# EAGLE library part TEXAS_INSTRUMENTS-MICROCONTROLLER-TMS320F28030PNT (library Module_ICs)
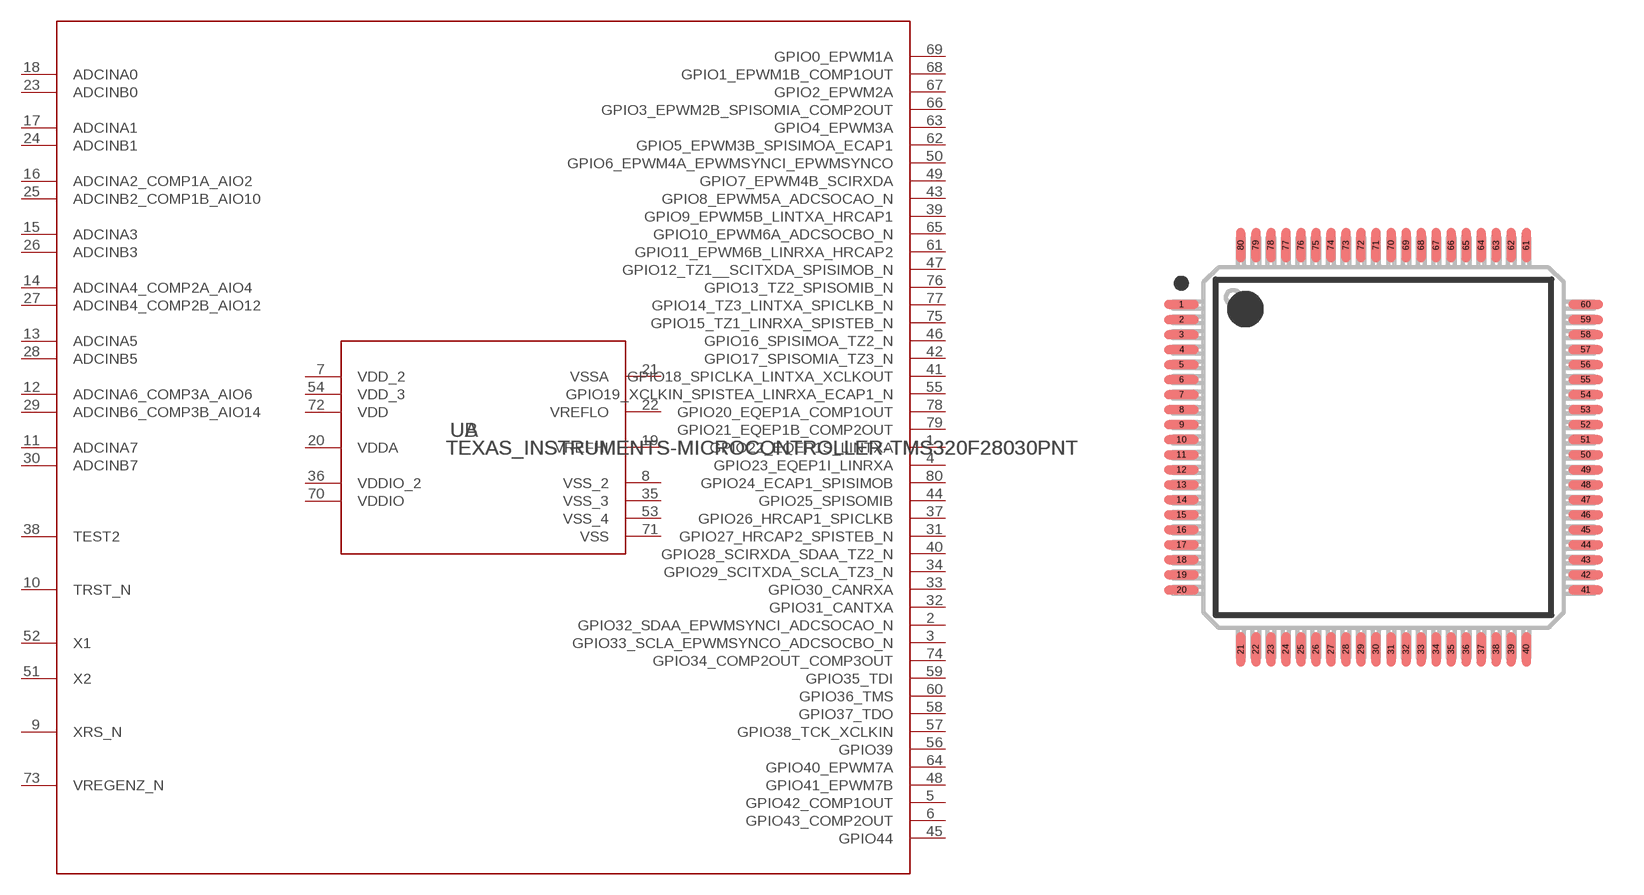
[diagram p22: symbol with the pads of TEXAS_INSTRUMENTS-MICROCONTROLLER-TMS320F28030PNT; footprint TEXAS_INSTRUMENTS-MICROCONTROLLER-TMS320F28030PNT]

Designator prefix U; gates A=TMS320F28030PN_A B=TMS320F28030PN_B

## TEXAS_INSTRUMENTS-MICROCONTROLLER-TMS320F28030PNT (MANUFACTURER: Texas Instruments; PARTNUMBER: TMS320F28030PNT; REFDES: RefDes; TYPE: TYPE; VALUE: Value)  [TEXAS_INSTRUMENTS-MICROCONTROLLER-TMS320F28030PNT]
1  A:GPIO22_EQEP1S_LINTXA
2  A:GPIO32_SDAA_EPWMSYNCI_ADCSOCAO_N
3  A:GPIO33_SCLA_EPWMSYNCO_ADCSOCBO_N
4  A:GPIO23_EQEP1I_LINRXA
5  A:GPIO42_COMP1OUT
6  A:GPIO43_COMP2OUT
7  B:VDD_2  pwr
8  B:VSS_2  pwr
9  A:XRS_N
10  A:TRST_N  pas
11  A:ADCINA7  in
12  A:ADCINA6_COMP3A_AIO6
13  A:ADCINA5  in
14  A:ADCINA4_COMP2A_AIO4
15  A:ADCINA3  in
16  A:ADCINA2_COMP1A_AIO2
17  A:ADCINA1  in
18  A:ADCINA0  in
19  B:VREFHI  pas
20  B:VDDA  pwr
21  B:VSSA  pwr
22  B:VREFLO  pas
23  A:ADCINB0  in
24  A:ADCINB1  in
25  A:ADCINB2_COMP1B_AIO10
26  A:ADCINB3  in
27  A:ADCINB4_COMP2B_AIO12
28  A:ADCINB5  in
29  A:ADCINB6_COMP3B_AIO14
30  A:ADCINB7  in
31  A:GPIO27_HRCAP2_SPISTEB_N
32  A:GPIO31_CANTXA
33  A:GPIO30_CANRXA
34  A:GPIO29_SCITXDA_SCLA_TZ3_N
35  B:VSS_3  pwr
36  B:VDDIO_2  pwr
37  A:GPIO26_HRCAP1_SPICLKB
38  A:TEST2  pas
39  A:GPIO9_EPWM5B_LINTXA_HRCAP1
40  A:GPIO28_SCIRXDA_SDAA_TZ2_N
41  A:GPIO18_SPICLKA_LINTXA_XCLKOUT
42  A:GPIO17_SPISOMIA_TZ3_N
43  A:GPIO8_EPWM5A_ADCSOCAO_N
44  A:GPIO25_SPISOMIB
45  A:GPIO44
46  A:GPIO16_SPISIMOA_TZ2_N
47  A:GPIO12_TZ1__SCITXDA_SPISIMOB_N
48  A:GPIO41_EPWM7B
49  A:GPIO7_EPWM4B_SCIRXDA
50  A:GPIO6_EPWM4A_EPWMSYNCI_EPWMSYNCO
51  A:X2  out
52  A:X1  in
53  B:VSS_4  pwr
54  B:VDD_3  pwr
55  A:GPIO19_XCLKIN_SPISTEA_LINRXA_ECAP1_N
56  A:GPIO39
57  A:GPIO38_TCK_XCLKIN
58  A:GPIO37_TDO
59  A:GPIO35_TDI
60  A:GPIO36_TMS
61  A:GPIO11_EPWM6B_LINRXA_HRCAP2
62  A:GPIO5_EPWM3B_SPISIMOA_ECAP1
63  A:GPIO4_EPWM3A
64  A:GPIO40_EPWM7A
65  A:GPIO10_EPWM6A_ADCSOCBO_N
66  A:GPIO3_EPWM2B_SPISOMIA_COMP2OUT
67  A:GPIO2_EPWM2A
68  A:GPIO1_EPWM1B_COMP1OUT
69  A:GPIO0_EPWM1A
70  B:VDDIO  pwr
71  B:VSS  pwr
72  B:VDD  pwr
73  A:VREGENZ_N  in
74  A:GPIO34_COMP2OUT_COMP3OUT
75  A:GPIO15_TZ1_LINRXA_SPISTEB_N
76  A:GPIO13_TZ2_SPISOMIB_N
77  A:GPIO14_TZ3_LINTXA_SPICLKB_N
78  A:GPIO20_EQEP1A_COMP1OUT
79  A:GPIO21_EQEP1B_COMP2OUT
80  A:GPIO24_ECAP1_SPISIMOB

## Footprint TEXAS_INSTRUMENTS-MICROCONTROLLER-TMS320F28030PNT (pad centres in mm)
smd 1.15 x 0.3: 1 -6.725,4.75; 2 -6.725,4.25; 3 -6.725,3.75; 4 -6.725,3.25; 5 -6.725,2.75; 6 -6.725,2.25; 7 -6.725,1.75; 8 -6.725,1.25; 9 -6.725,0.75; 10 -6.725,0.25; 11 -6.725,-0.25; 12 -6.725,-0.75; 13 -6.725,-1.25; 14 -6.725,-1.75; 15 -6.725,-2.25; 16 -6.725,-2.75; 17 -6.725,-3.25; 18 -6.725,-3.75; 19 -6.725,-4.25; 20 -6.725,-4.75; 41 6.725,-4.75; 42 6.725,-4.25; 43 6.725,-3.75; 44 6.725,-3.25; 45 6.725,-2.75; 46 6.725,-2.25; 47 6.725,-1.75; 48 6.725,-1.25; 49 6.725,-0.75; 50 6.725,-0.25; 51 6.725,0.25; 52 6.725,0.75; 53 6.725,1.25; 54 6.725,1.75; 55 6.725,2.25; 56 6.725,2.75; 57 6.725,3.25; 58 6.725,3.75; 59 6.725,4.25; 60 6.725,4.75
smd 0.3 x 1.15: 21 -4.75,-6.725; 22 -4.25,-6.725; 23 -3.75,-6.725; 24 -3.25,-6.725; 25 -2.75,-6.725; 26 -2.25,-6.725; 27 -1.75,-6.725; 28 -1.25,-6.725; 29 -0.75,-6.725; 30 -0.25,-6.725; 31 0.25,-6.725; 32 0.75,-6.725; 33 1.25,-6.725; 34 1.75,-6.725; 35 2.25,-6.725; 36 2.75,-6.725; 37 3.25,-6.725; 38 3.75,-6.725; 39 4.25,-6.725; 40 4.75,-6.725; 61 4.75,6.725; 62 4.25,6.725; 63 3.75,6.725; 64 3.25,6.725; 65 2.75,6.725; 66 2.25,6.725; 67 1.75,6.725; 68 1.25,6.725; 69 0.75,6.725; 70 0.25,6.725; 71 -0.25,6.725; 72 -0.75,6.725; 73 -1.25,6.725; 74 -1.75,6.725; 75 -2.25,6.725; 76 -2.75,6.725; 77 -3.25,6.725; 78 -3.75,6.725; 79 -4.25,6.725; 80 -4.75,6.725